# Altium footprint library B3202X.PcbLib: 35 footprints (part 1 of 3)
Each footprint in its own frame and in the unit in brackets; x right, y up, seen from the top. Pads: shape width x height; smd on the part's side, far side on the other; paste and mask are expansions set on the pad; w line width, h text height; cw(c..) or ccw(c..) is an arc to the next point about the centre after c.
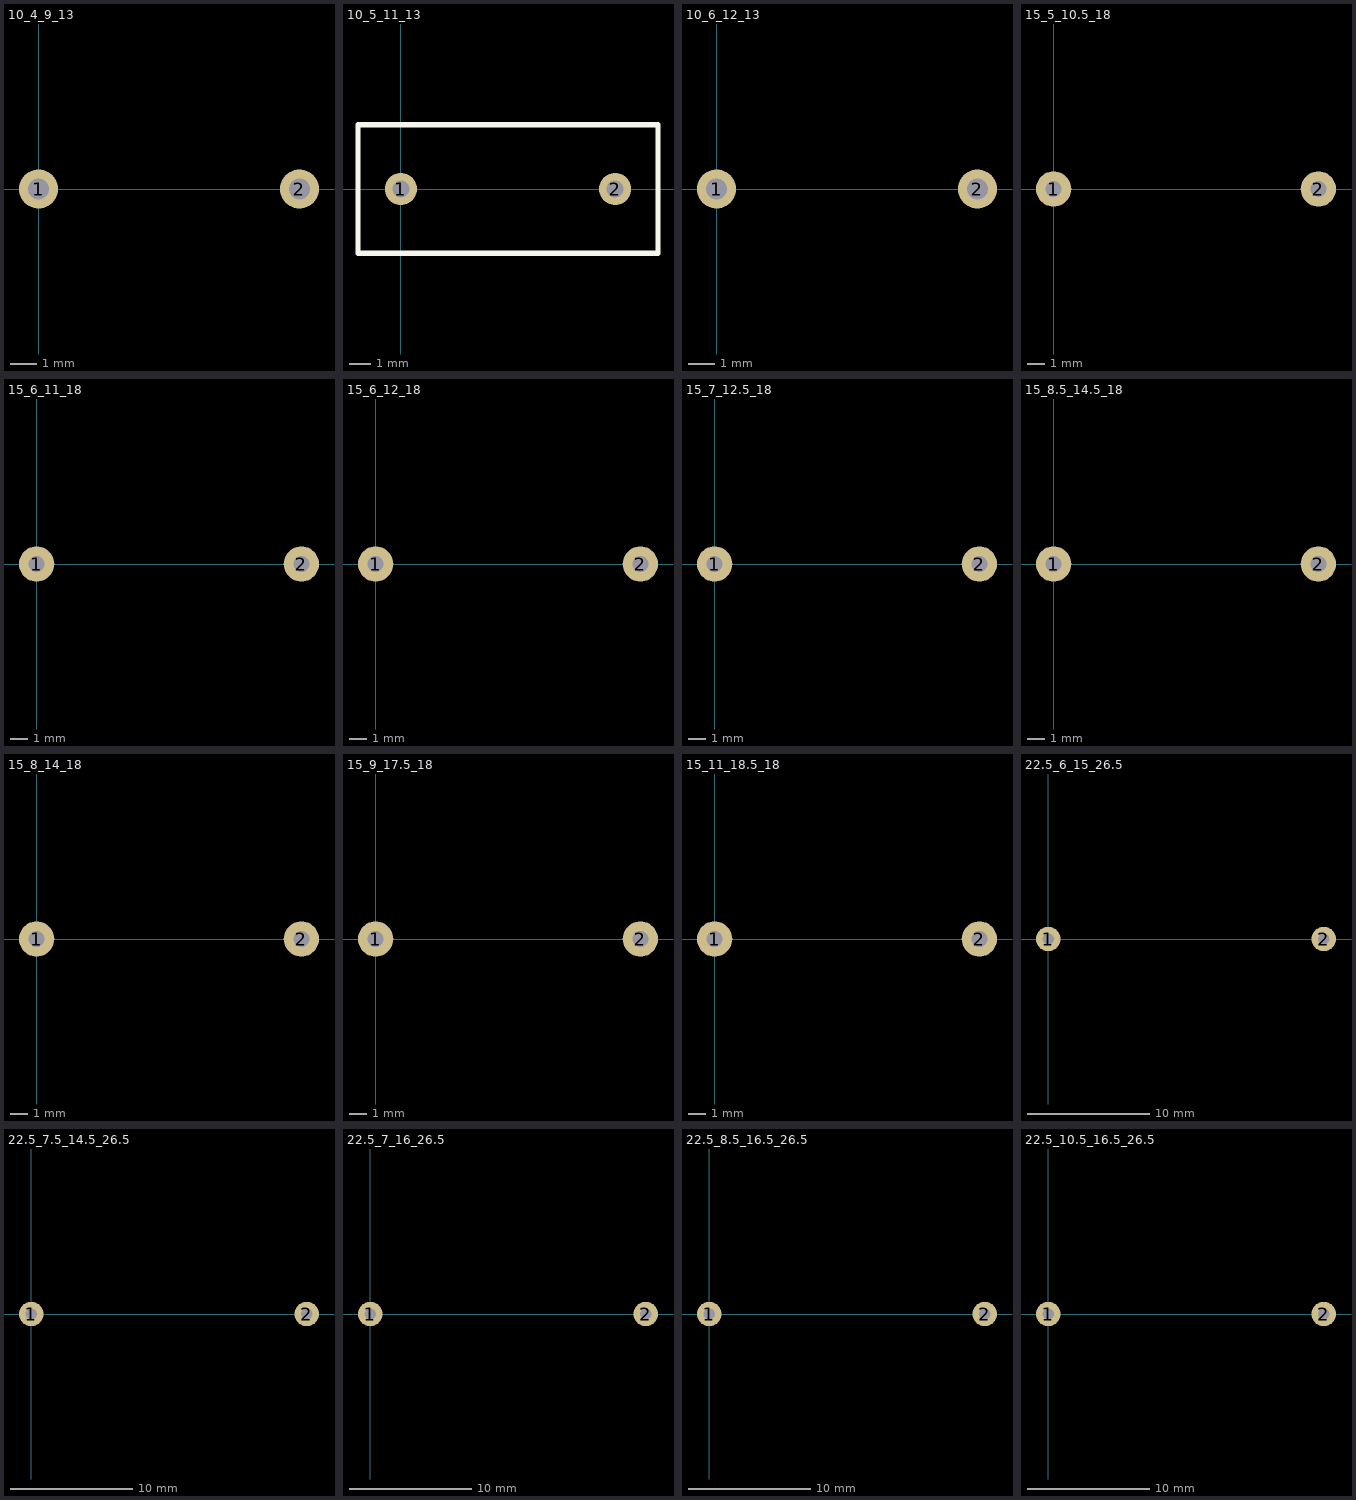
[diagram p0: the footprints below, top view; thin cyan lines are the x and y axes]

## 10_4_9_13 [mm]
pads (2):
  round 1.5 hole 0.8: 1(0,0) 2(10,0)

## 10_5_11_13 [mm]
pads (2):
  round 1.5 hole 0.8: 1(0,0) 2(10,0)
Top Overlay:
  lines w0.254: -2,-3 12,-3 12,3 -2,3 -2,-3
3D body "10_5_11_13.stp": height 11, standoff -5, extent -1.5,-2.5 11.5,2.5

## 10_6_12_13 [mm]
pads (2):
  round 1.5 hole 0.8: 1(0,0) 2(10,0)

## 15_5_10.5_18 [mm]
pads (2):
  round 2 hole 0.9: 1(0,0) 2(15,0)

## 15_6_11_18 [mm]
pads (2):
  round 2 hole 0.9: 1(0,0) 2(15,0)

## 15_6_12_18 [mm]
pads (2):
  round 2 hole 0.9: 1(0,0) 2(15,0)

## 15_7_12.5_18 [mm]
pads (2):
  round 2 hole 0.9: 1(0,0) 2(15,0)

## 15_8.5_14.5_18 [mm]
pads (2):
  round 2 hole 0.9: 1(0,0) 2(15,0)

## 15_8_14_18 [mm]
pads (2):
  round 2 hole 0.9: 1(0,0) 2(15,0)

## 15_9_17.5_18 [mm]
pads (2):
  round 2 hole 0.9: 1(0,0) 2(15,0)

## 15_11_18.5_18 [mm]
pads (2):
  round 2 hole 0.9: 1(0,0) 2(15,0)

## 22.5_6_15_26.5 [mm]
pads (2):
  round 2 hole 0.9: 1(0,0) 2(22.5,0)

## 22.5_7.5_14.5_26.5 [mm]
pads (2):
  round 2 hole 0.9: 1(0,0) 2(22.5,0)

## 22.5_7_16_26.5 [mm]
pads (2):
  round 2 hole 0.9: 1(0,0) 2(22.5,0)

## 22.5_8.5_16.5_26.5 [mm]
pads (2):
  round 2 hole 0.9: 1(0,0) 2(22.5,0)

## 22.5_10.5_16.5_26.5 [mm]
pads (2):
  round 2 hole 0.9: 1(0,0) 2(22.5,0)